# Altium schematic symbol library control-cluster-test.SchLib: 9 symbols
Pins are listed as number, name and electrical type; pins without a type are passive.

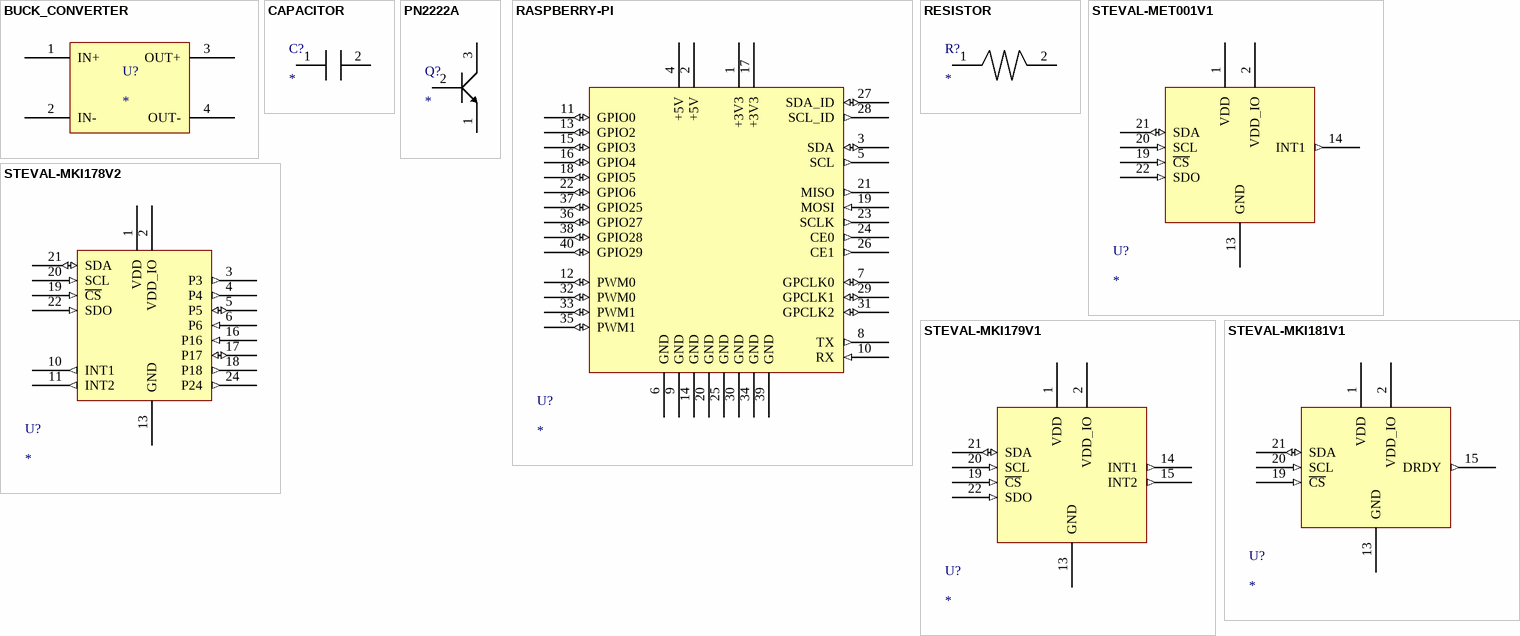
[diagram p0: symbols BUCK_CONVERTER to STEVAL-MKI181V1]

## BUCK_CONVERTER
designator U?
ComponentLink1Description: amazon; ComponentLink1URL: https://www.amazon.com/MCIGICM-step-down-Converter-3-0-40V-1-5-35V/dp/B06XZ1DKF2
footprint BUCK_CONVERTER
pins: 1 IN+, 2 IN-, 3 OUT+, 4 OUT-

## CAPACITOR
designator C?
footprint CAPACITOR
pins: 1, 2

## PN2222A
designator Q?
footprint PN2222A
pins: 1 E, 2 B, 3 C

## RASPBERRY-PI
designator U?
footprint RASPBERRY-PI
pins: 1 +3V3 (power), 2 +5V (power), 3 SDA (io), 4 +5V (power), 5 SCL (out), 6 GND, 7 GPCLK0 (io), 8 TX (out), 9 GND, 10 RX (in), 11 GPIO0 (io), 12 PWM0 (io), 13 GPIO2 (io), 14 GND, 15 GPIO3 (io), 16 GPIO4 (io), 17 +3V3 (power), 18 GPIO5 (io), 19 MOSI (in), 20 GND, 21 MISO (out), 22 GPIO6 (io), 23 SCLK (out), 24 CE0 (out), 25 GND, 26 CE1 (out), 27 SDA_ID (io), 28 SCL_ID (out), 29 GPCLK1 (io), 30 GND, 31 GPCLK2 (io), 32 PWM0 (io), 33 PWM1 (io), 34 GND, 35 PWM1 (io), 36 GPIO27 (io), 37 GPIO25 (io), 38 GPIO28 (io), 39 GND, 40 GPIO29 (io)

## RESISTOR
designator R?
footprint RESISTOR
pins: 1, 2

## STEVAL-MET001V1
designator U?
footprint STEVAL
pins: 1 VDD (power), 2 VDD_IO (power), 13 GND, 14 INT1 (out), 19 ~{CS} (in), 20 SCL (in), 21 SDA (io), 22 SDO (in)

## STEVAL-MKI178V2
designator U?
footprint STEVAL
pins: 1 VDD (power), 2 VDD_IO (power), 3 P3 (out), 4 P4 (out), 5 P5 (io), 6 P6 (in), 10 INT1 (out), 11 INT2 (out), 13 GND, 16 P16 (in), 17 P17 (io), 18 P18 (out), 19 ~{CS} (in), 20 SCL (in), 21 SDA (io), 22 SDO (in), 24 P24 (out)

## STEVAL-MKI179V1
designator U?
footprint STEVAL
pins: 1 VDD (power), 2 VDD_IO (power), 13 GND, 14 INT1 (out), 15 INT2 (out), 19 ~{CS} (in), 20 SCL (in), 21 SDA (io), 22 SDO (in)

## STEVAL-MKI181V1
designator U?
footprint STEVAL
pins: 1 VDD (power), 2 VDD_IO (power), 13 GND, 15 DRDY (out), 19 ~{CS} (in), 20 SCL (in), 21 SDA (io)